# EAGLE library part 20021?21-00010C4LF (library RoboJackets-Connectors)
Description: Connector Header Surface Mount 10 position 0.050" (1.27mm) Link Female: Digi-Key <https://www.digikey.com/products/en?keywords=609-3706-1-ND> Link Male: Digi-Key <https://www.digikey.com/product-detail/en/amphenol-icc-fci/20021121-00010C4LF/609-3695-1-ND/2209147>
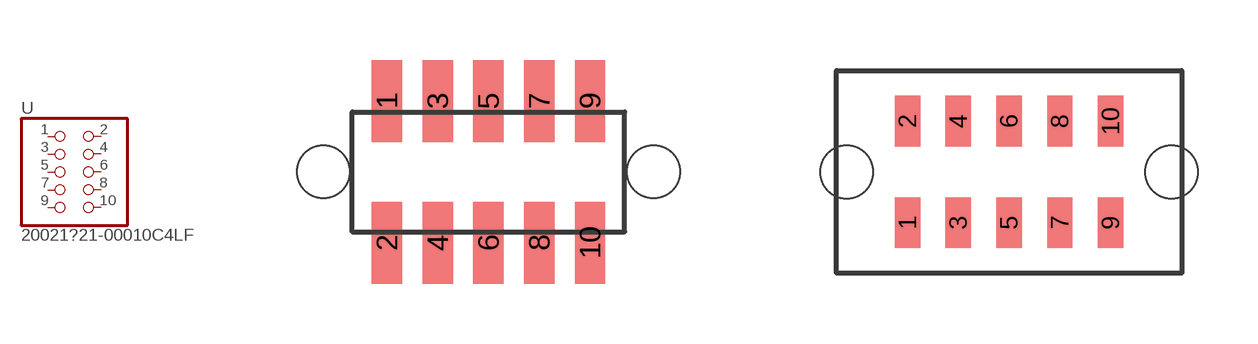
[diagram p6: symbol with the pads of 20021321-00010C4LF; footprints 20021321-00010C4LF, 20021121-00010C4LF]

Designator prefix -

## 20021321-00010C4LF (DKPN: 609-3706-1-ND)  [20021321-00010C4LF]
1  1  pas
2  2  pas
3  3  pas
4  4  pas
5  5  pas
6  6  pas
7  7  pas
8  8  pas
9  9  pas
10  10  pas

## 20021121-00010C4LF (DKPN: 609-3695-1-ND)  [20021121-00010C4LF]
Pads as for 20021321-00010C4LF

## Footprint 20021321-00010C4LF (pad centres in mm)
smd 0.76 x 2.05: 1 -2.54,1.775; 2 -2.54,-1.775; 3 -1.27,1.775; 4 -1.27,-1.775; 5 0,1.775; 6 0,-1.775; 7 1.27,1.775; 8 1.27,-1.775; 9 2.54,1.775; 10 2.54,-1.775
hole 1.321 at -4.13,0
hole 1.321 at 4.13,0

## Footprint 20021121-00010C4LF (pad centres in mm)
Amphenol FCI - SMD 10 pin connector
smd 0.635 x 1.27: 1 -2.54,-1.27; 2 -2.54,1.27; 3 -1.27,-1.27; 4 -1.27,1.27; 5 0,-1.27; 6 0,1.27; 7 1.27,-1.27; 8 1.27,1.27; 9 2.54,-1.27; 10 2.54,1.27
hole 1.321 at 4.064,0
hole 1.321 at -4.064,0